# Altium footprint library IND0402.PcbLib: 1 footprints
Each footprint in its own frame and in the unit in brackets; x right, y up, seen from the top. Pads: shape width x height; smd on the part's side, far side on the other; paste and mask are expansions set on the pad; w line width, h text height; cw(c..) or ccw(c..) is an arc to the next point about the centre after c.
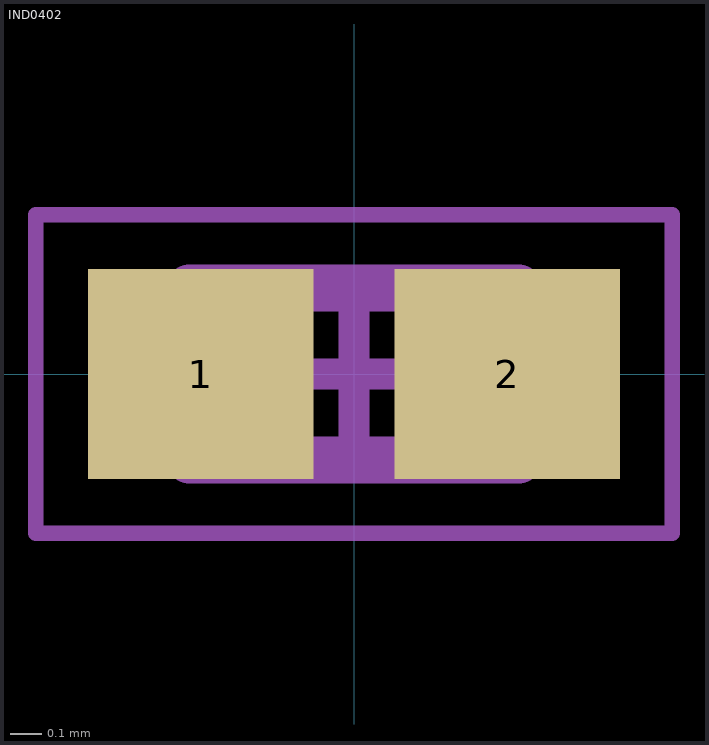
[diagram p0: the footprint, top view; thin cyan lines are the x and y axes]

## IND0402 [mm]
pads (2):
  rect 0.72x0.67 smd: 1(-0.49,0) 2(0.49,0)
Mechanical 1:
  lines w0.15: -0.525,-0.275 0.525,-0.275 0.525,0.275 -0.525,0.275 -0.525,-0.275
  text ".Designator" at -0.378,-0.175 h0.5
Mechanical 13:
  lines w0.1: -0.525,-0.275 -0.525,0.275 0.525,0.275 0.525,-0.275 -0.525,-0.275
Mechanical 15:
  lines w0.05: -1.016,-0.508 -1.016,0.508 1.016,0.508 1.016,-0.508 -1.016,-0.508
  lines w0.1: -0.275,0 0.275,0 ; 0,-0.275 0,0.275
3D body "LQW15AN4N3B8ZD.STEP": height 0.6, standoff 0, extent -0.5,-0.3 0.5,0.3